# Altium schematic symbol library Библиотеки.SchLib: 13 symbols
Pins are listed as number, name and electrical type; pins without a type are passive.

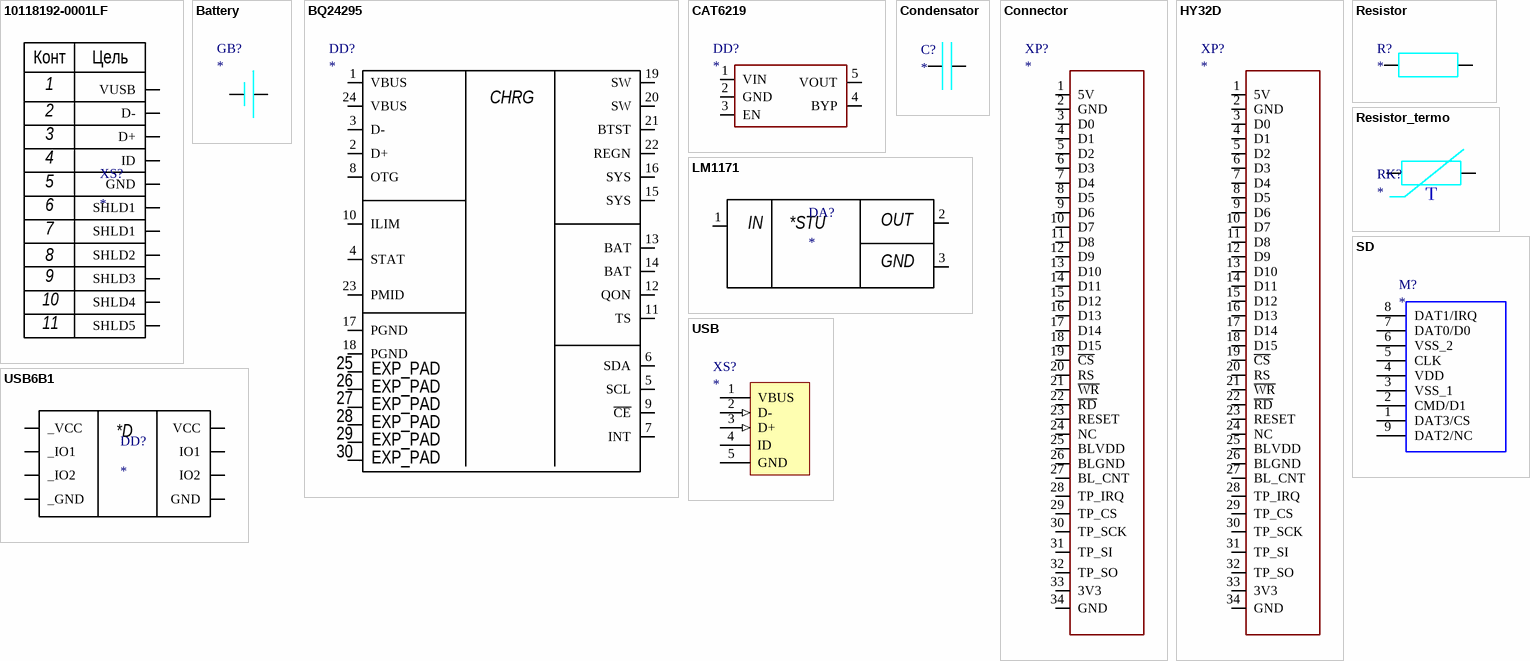
[diagram p0: symbols 10118192-0001LF to USB6B1]

## 10118192-0001LF
designator XS?
USB - micro B USB 2.0 Receptacle Connector 5 Position Surface Mount, Right Angle; MP: 10118192-0001LF; MF: Amphenol ICC; Availability: Unavailable; Price: None; Package: None; Value: *; SnapEDA_Link: https://www.snapeda.com/parts/10118192-0001LF/Amphenol%20FCI/view-part/2897676/?ref=snap
footprint AMPHENOL_10118192-0001LF
pins: 1 VUSB, 2 D-, 3 D+, 4 ID, 5 GND, SH1 SHLD1, SH2 SHLD1, SH3 SHLD2, SH4 SHLD3, SH5 SHLD4, SH6 SHLD5
text: Конт; Цель; 6; 7; 8; 9; 10; 11

## Battery
designator GB?
footprint Battery
pins: 1, 2

## BQ24295
designator DD?
footprint BQ24295 (QFN, 24-Leads, Body 4,00x4,00mm, Pitch 0,50mm, Thermal Pad 3,00x3,00mm, IPC Medium Density)
pins: 1 VBUS, 2 D+, 3 D-, 4 STAT, 5 SCL, 6 SDA, 7 INT, 8 OTG, 9 ~{CE}, 10 ILIM, 11 TS, 12 QON, 13 BAT, 14 BAT, 15 SYS, 16 SYS, 17 PGND, 18 PGND, 19 SW, 20 SW, 21 BTST, 22 REGN, 23 PMID, 24 VBUS
text: CHRG; 25; EXP_PAD; 26; 27; 28; 29; 30

## CAT6219
designator DD?
footprint CAT6219 (подсветка дисплея) (SOT23, 5-Leads, Body 2,90x2,80mm, Pitch 0,95mm, IPC Medium Density)
pins: 1 VIN, 2 GND, 3 EN, 4 BYP, 5 VOUT

## Condensator
designator C?
footprint Condensator (k50-29) (Chip Capacitor, 2-Leads, Body 2,00x1,25mm, IPC Medium Density)
pins: 1, 2

## Connector
designator XP?
footprint Connector
pins: 1 5V, 2 GND, 3 D0, 4 D1, 5 D2, 6 D3, 7 D4, 8 D5, 9 D6, 10 D7, 11 D8, 12 D9, 13 D10, 14 D11, 15 D12, 16 D13, 17 D14, 18 D15, 19 ~{CS}, 20 RS, 21 ~{WR}, 22 ~{RD}, 23 RESET, 24 NC, 25 BLVDD, 26 BLGND, 27 BL_CNT, 28 TP_IRQ, 29 TP_CS, 30 TP_SCK, 31 TP_SI, 32 TP_SO, 33 3V3, 34 GND

## HY32D
designator XP?
footprint HY32D
pins: 1 5V, 2 GND, 3 D0, 4 D1, 5 D2, 6 D3, 7 D4, 8 D5, 9 D6, 10 D7, 11 D8, 12 D9, 13 D10, 14 D11, 15 D12, 16 D13, 17 D14, 18 D15, 19 ~{CS}, 20 RS, 21 ~{WR}, 22 ~{RD}, 23 RESET, 24 NC, 25 BLVDD, 26 BLGND, 27 BL_CNT, 28 TP_IRQ, 29 TP_CS, 30 TP_SCK, 31 TP_SI, 32 TP_SO, 33 3V3, 34 GND

## LM1171
designator DA?
Linear Voltage Regulator IC 1 Output 800mA SOT-223-4; MP: LM1171; MF: Texas Instruments; SnapEDA_Link: https://www.snapeda.com/parts/LM1117/Texas%20Instruments/view-part/555980/?ref=snap; Price: None; Value: *; Availability: Unavailable; Package: SOT-223-4 Texas Instruments
footprint LM1171
pins: 1 IN, 2 OUT, 3 GND
text: *STU

## Resistor
designator R?
footprint RC_0805 (Resistor) (Chip Resistor, 2-Leads, Body 2,10x1,30mm, IPC Medium Density)
pins: 1, 2

## Resistor_termo
designator RK?
footprint RC_0805 (Resistor) (Chip Resistor, 2-Leads, Body 2,10x1,30mm, IPC Medium Density)
pins: 1, 2
text: T

## SD
designator M?
footprint SD_card_reader
pins: 1 DAT3/CS "CD/DAT3", 2 CMD/D1, 3 VSS_1 "VSS1", 4 VDD, 5 CLK "CLK/SCLK", 6 VSS_2 "VSS2", 7 DAT0/D0 "DAT0", 8 DAT1/IRQ "DAT1", 9 DAT2/NC "DAT3"

## USB
designator XS?
footprint USB
pins: 1 VBUS (power) "Power", 2 D- (in) "-DATA", 3 D+ (in) "+DATA", 4 ID, 5 GND (power) "Ground"

## USB6B1
designator DD?
Clamp Ipp Tvs Diode Surface Mount 8-SO; MF: STMicroelectronics; MP: USB6B1; Package: SOIC-8 STMicroelectronics; Value: *; Availability: Unavailable; SnapEDA_Link: https://www.snapeda.com/parts/USB6B1/STMicroelectronics/view-part/51146/?ref=snap; Price: None
footprint SO08
pins: 1 _VCC (power), 2 _IO1 (power), 3 _IO2 (power), 4 _GND (power), 5 GND (power), 6 IO2 (power), 7 IO1 (power), 8 VCC (power)
text: *D